# Altium schematic symbol library SB_open.SchLib: 1 symbol
Pins are listed as number, name and electrical type; pins without a type are passive.

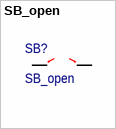
[diagram p0: symbol SB_open]

## SB_open
designator SB?
pins: 1, 2